# EAGLE library part MY-STUFF_NAVSWITCH (library OSO-BOOK-C3-00)
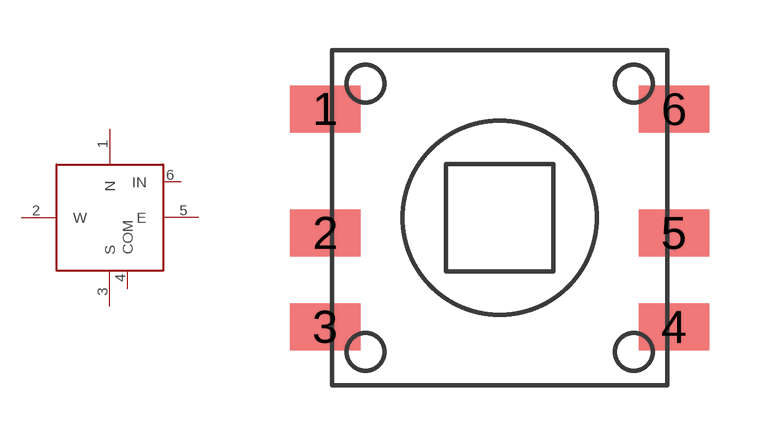
[diagram p3: symbol with the pads of MY-STUFF_SKQUBAE010; footprint MY-STUFF_SKQUBAE010]

Designator prefix SW

## MY-STUFF_NAVSWITCHSKQUABAUE010  [MY-STUFF_SKQUBAE010]
1  N
2  W
3  S
4  COM
5  E
6  IN

## Footprint MY-STUFF_SKQUBAE010 (pad centres in mm)
smd 2.1 x 1.4: 1 -5.2,3.25; 2 -5.2,-0.45; 3 -5.2,-3.25; 4 5.2,-3.25; 5 5.2,-0.45; 6 5.2,3.25